# Altium footprint library PcbLib1.PcbLib: 1 footprints
Each footprint in its own frame and in the unit in brackets; x right, y up, seen from the top. Pads: shape width x height; smd on the part's side, far side on the other; paste and mask are expansions set on the pad; w line width, h text height; cw(c..) or ccw(c..) is an arc to the next point about the centre after c.
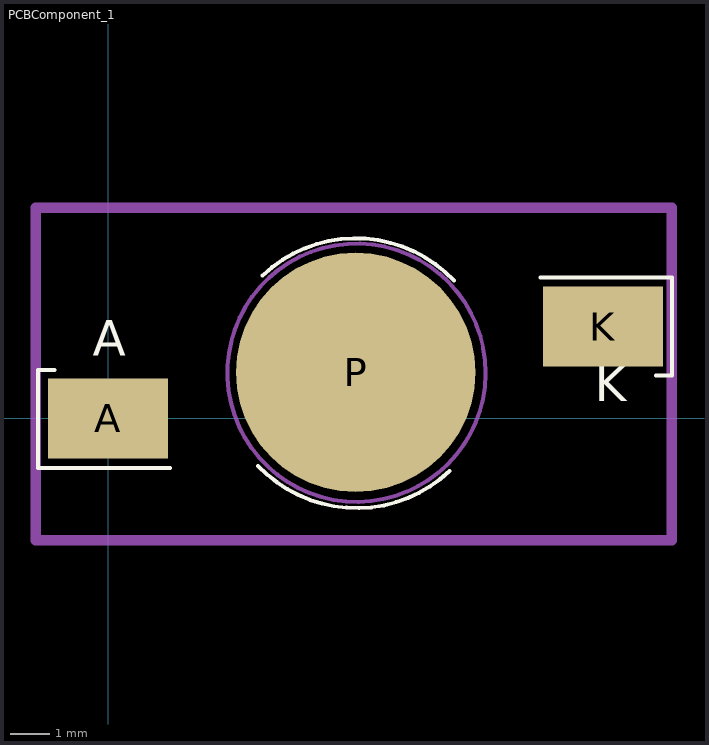
[diagram p0: the footprint, top view; thin cyan lines are the x and y axes]

## PCBComponent_1 [mm]
pads (3):
  rect 3x2 smd: A(0,0) K(12.4,2.3)
  round 6 smd: P(6.2,1.15)
Top Overlay:
  lines w0.1: -1.34,1.21 -1.749,1.21 -1.749,-1.247 1.552,-1.247 ; 3.761,-1.188 ccw(c6.223,1.143) 8.554,-1.319 ; 3.875,3.581 cw(c6.205,1.119) 8.668,3.449 ; 10.829,3.525 14.129,3.525 14.129,1.068 13.721,1.068
  text "A" at -0.381,1.27 h1.52
  text "K" at 12.192,0.127 h1.52
Top assembly:
  lines w0.1: 9.457,1.103 cw(c6.223,1.143) 9.457,1.143
Top courtyard:
  lines w0.254: -1.808,-3.054 14.118,-3.054 14.118,5.277 -1.808,5.277 -1.808,-3.054
3D body "Power Led.stp": height 5.1, standoff 0.05, extent -1.4,-2.825 13.5,5.125